# Altium footprint library PcbLib1.PcbLib: 1 footprints
Each footprint in its own frame and in the unit in brackets; x right, y up, seen from the top. Pads: shape width x height; smd on the part's side, far side on the other; paste and mask are expansions set on the pad; w line width, h text height; cw(c..) or ccw(c..) is an arc to the next point about the centre after c.
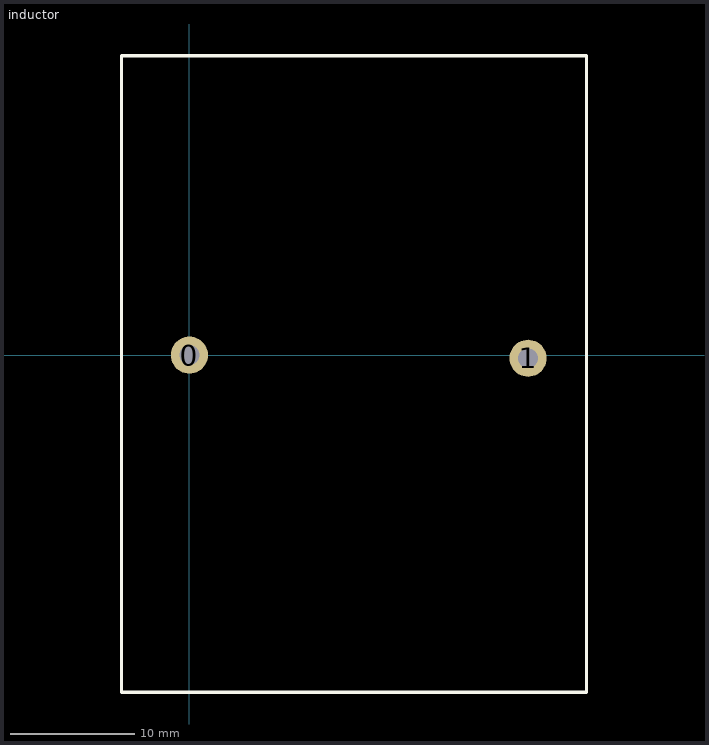
[diagram p0: the footprint, top view; thin cyan lines are the x and y axes]

## inductor [mm]
height 50
pads (2):
  round 3 hole 1.6: 0(0,0) 1(27.305,-0.254)
Top Overlay:
  lines w0.254: -5.461,-27.178 32.004,-27.178 32.004,24.13 -5.461,24.13 -5.461,-27.178